# EAGLE library part 5991 (library mynixies)
B-5991 or HP 1970-0009 Nixie Tube
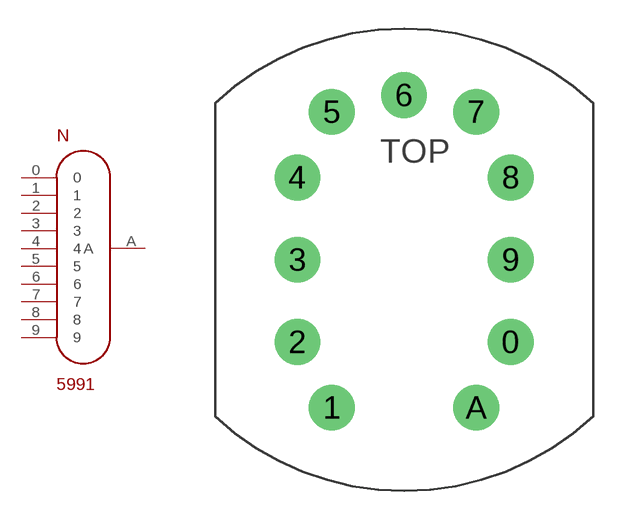
[diagram p1: symbol with the pads of 5991-D-SUB; footprint 5991-D-SUB]

Designator prefix N

## 59915991-D-SUB  [5991-D-SUB]
0  0  pas
1  1  pas
2  2  pas
3  3  pas
4  4  pas
5  5  pas
6  6  pas
7  7  pas
8  8  pas
9  9  pas
A  A  pas

## Footprint 5991-D-SUB (pad centres in mm)
drill 1.6: 0 5.588,-4.318; 1 -3.786,-7.762; 2 -5.588,-4.318; 3 -5.588,0; 4 -5.588,4.318; 5 -3.786,7.762; 6 0,8.636; 7 3.786,7.762; 8 5.588,4.318; 9 5.588,0; A 3.786,-7.762